# Altium integrated library Buttons.IntLib: 32 symbols
Pins are listed as number, name and electrical type; pins without a type are passive.

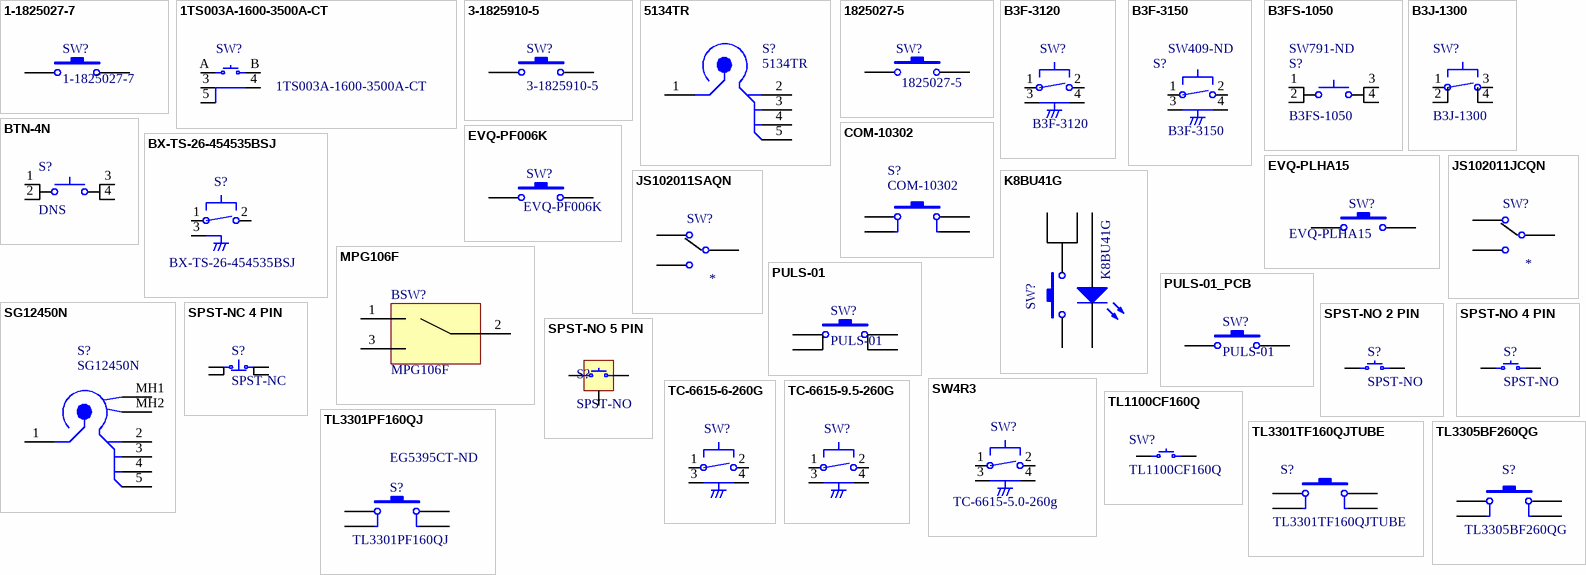
[diagram p0: symbols 1-1825027-7 to TL3305BF260QG]

## 1-1825027-7
designator SW?
SWITCH TACTILE SPST-NO 0.05A 24V; Manufacturer: TE Connectivity ALCOSWITCH Switches; Switch Function: Off-Mom; Contact Rating @ Voltage: 0.05A @ 24VDC; Actuator Type: Standard; Actuator Length, Right Angle: 6.85mm; Actuator Orientation: Side Actuated; Outline: 7.10mm x 7.00mm; Illumination: Non-Illuminated; Operating Force: 160gf; Actuator Material: Polyamide (PA), Nylon; Switch Travel: 0.25mm; Mechanical Life: 100,000 Cycles; Supplier 1: Digi-Key; Manufacturer Part Number: 1-1825027-7; RoHS: RoHS Compliant; Category: Switches; Stock 1: 14815; Pricing 1: 1=0.2, 10=0.194, 25=0.1876, 50=0.1808, 100=0.1708, 250=0.16072, 500=0.15402, 1000=0.11719, 5000=0.0971 (USD); Packaging: Bulk; Part Status: Active; Circuit: SPST-NO; Mounting Type: Through Hole, Right Angle; Actuator Height off PCB, Vertical: -; Termination Style: PC Pin; Illumination Type, Color: -; Illumination Voltage (Nominal): -; Ingress Protection: -; Features: -; Operating Temperature: -35°C ~ 85°C; ComponentLink1URL: http://www.te.com/commerce/DocumentDelivery/DDEController?Action=srchrtrv&DocNm=1825027&DocType=Customer+Drawing&DocLang=English; ComponentLink1Description: http://www.te.com/commerce/DocumentDelivery/DDEController?Action=srchrtrv&DocNm=1825027&DocType=Customer+Drawing&DocLang=English; Supplier Part Number 1: 450-1660-ND; Value: 1-1825027-7
footprint 1-1825027-7
pins: 1, 2

## 1TS003A-1600-3500A-CT
designator SW?
SPST-NO 50MA @ 12VDC SIDE ACTUATED RECTANGULAR BUTTON 2X4X3.5MM; Manufacturer: HYP (Hongyuan Precision); Switch Function: Off-Mom; Contact Rating @ Voltage: 0.05A @ 12VDC; Actuator Type: Plunger for Cap; Operating Force: 160gf; Switch Travel: 0.30mm; Mechanical Life: 100,000 Cycles; Manufacturer Part Number: 1TS003A-1600-3500A-CT; RoHS: RoHS Compliant; Category: Switches; Stock 1: 10088; Pricing 1: 1=0.45, 10=0.429, 25=0.4212, 50=0.4054, 100=0.3498, 250=0.318, 500=0.3021, 1000=0.2385, 5000=0.2226 (USD); Packaging: Bulk; Part Status: Active; Circuit: SPST-NO; Mounting Type: SMD; Actuator Height off PCB, Vertical: -; Actuator Orientation: Side Actuated; Termination Style: PC Pin; Outline: 2x4x3.5mm; Features: Tactile Feedback; Operating Temperature: -20°C ~ 70°C; ComponentLink1URL: http://spec_sheets.e-switch.com/specs/P001110.pdf; ComponentLink1Description: http://spec_sheets.e-switch.com/specs/P001110.pdf; Value: 1TS003A-1600-3500A-CT; Supplier Part Number 1: C255805
footprint 1TS003A-XXXX-3500A-CT
pins: 3, 4, 5, A, B

## 3-1825910-5
designator SW?
SWITCH TACTILE SPST-NO 0.05A 24V; Manufacturer: TE Connectivity ALCOSWITCH Switches; Switch Function: Off-Mom; Contact Rating @ Voltage: 0.05A @ 24VDC; Actuator Type: Standard; Actuator Height off PCB, Vertical: 8.50mm; Actuator Orientation: Top Actuated; Outline: 6.00mm x 6.00mm; Illumination: Non-Illuminated; Operating Force: 160gf; Actuator Material: Polyamide (PA66), Nylon 6/6; Switch Travel: 0.25mm; Mechanical Life: 100,000 Cycles; Supplier 1: Digi-Key; Manufacturer Part Number: 3-1825910-5; RoHS: RoHS Compliant; Category: Switches; Stock 1: 28985; Pricing 1: 1=0.11, 10=0.11, 25=0.1064, 50=0.1026, 100=0.0969, 250=0.09124, 500=0.08744, 1000=0.06653, 5000=0.05512 (USD); Packaging: Bulk; Part Status: Active; Circuit: SPST-NO; Mounting Type: Through Hole; Actuator Length, Right Angle: -; Termination Style: PC Pin; Illumination Type, Color: -; Illumination Voltage (Nominal): -; Ingress Protection: -; Features: -; Operating Temperature: -35°C ~ 85°C; ComponentLink1URL: http://www.te.com/commerce/DocumentDelivery/DDEController?Action=srchrtrv&DocNm=1825910&DocType=Customer+Drawing&DocLang=English; ComponentLink1Description: http://www.te.com/commerce/DocumentDelivery/DDEController?Action=srchrtrv&DocNm=1825910&DocType=Customer+Drawing&DocLang=English; Supplier Part Number 1: 450-1644-ND; Value: 3-1825910-5
footprint c-3-1825910-5-c-ONPCB
pins: 1, 2

## 5134TR
designator S?
Tactile Switches Mini Four Leg Keypad Dome Switch .020 H; Manufacturer: Keystone Electronics; Throw Configuration: SPST; Illumination Type: Non-Illuminated; Switch Function: Off-Mom; Operating Force: 280gf; Supplier: Digikey; Supplier Part Number: 36-5134CT-ND; Manufacturer Part Number: 5134TR; RoHS: Yes; Category: Tactile Switches; Stock: 107235; Pricing: 1=0,45, 25=0,4096, 100=0,321, 250=0,29596, 500=0,27916, 1000=0,243, 2500=0,2253 (USD); Mounting Technology: Surface Mount; Min Operating Temperature: -40°C; Max Operating Temperature: 105°C; Packaging: Cut Tape; Termination: SMD/SMT; Series: -; RoHS Compliant: Yes; ComponentLink1URL: http://www.keyelco.com/product-pdf.cfm?p=14314&src-supplier=Digikey; ComponentLink1Description: http://www.keyelco.com/product-pdf.cfm?p=14314&src-supplier=Digikey; ComponentLink2URL: https://datasheet.octopart.com/5134TR-Keystone-datasheet-100434997.pdf?src-supplier=Sager+Electronics; ComponentLink2Description: https://datasheet.octopart.com/5134TR-Keystone-datasheet-100434997.pdf?src-supplier=Sager+Electronics
footprint KEYSTONE_5134TR (SWITCH TACT SPST-NO 0.012A 24V, 7.00mm x 7.00mm)
pins: 1, 2, 3, 4, 5

## 1825027-5
designator SW?
Tactile Switch SPST-NO Side Actuated Through Hole, Right Angle; Switch Function: Off-Mom; Contact Rating @ Voltage: 0.05A @ 24VDC; Actuator Type: Standard; Actuator Height off PCB, from Pins: 3.86mm; Outline: 7.10mm x 7.00mm; Illumination: Non-Illuminated; Operating Force: 160gf; Actuator Material: Polybutylene Terephthalate (PBT); Switch Travel: 0.25mm; Mechanical Life: 100,000 Cycles; Packaging: Bulk; Circuit: SPST-NO; Mounting Type: Through Hole, Right Angle; Actuator Orientation: Side Actuated; Termination Style: PC Pin; Illumination Voltage (Nominal): -; Illumination Type, Color: -; Ingress Protection: -; Features: -; Operating Temperature: -35°C ~ 85°C; ComponentLink1URL: http://www.te.com/commerce/DocumentDelivery/DDEController?Action=srchrtrv&DocNm=1825027&DocType=Customer+Drawing&DocLang=English; ComponentLink1Description: http://www.te.com/commerce/DocumentDelivery/DDEController?Action=srchrtrv&DocNm=1825027&DocType=Customer+Drawing&DocLang=English; Supplier 1: Digi-Key; Supplier Part Number 1: 450-1662-ND; Value: 1825027-5
footprint 1825027-5
pins: 1, 2

## B3F-3120
designator SW?
Switch Tactile N.O. SPST Flat Round Button PC Pins 0.05A 24VDC 0.98N Thru-Hole Bag; Manufacturer: Omron; Actuator Length: 1.0922mm; Contact Current Rating: 50mA; Contact Resistance: 100mΩ; Electrical Life: 1Mcycles; Illumination Type: Illuminated, Non-Illuminated; Max Voltage Rating (DC): 24V; Number of Poles: 1; Operating Force: 1.27N; Switch Function: Off-Mom; Switch Travel: 250µm; Supplier: DigiKey; Supplier Part Number: SW407-ND; Manufacturer Part Number: B3F-3120; RoHS: Compliant; Category: Tactile Switches; Stock: 8706; Pricing: 1=0,34, 10=0,274, 25=0,2676, 100=0,2509, 250=0,24404, 500=0,2352, 1000=0,23128 (USD); Ambient Temperature Range High: 70°C; Color: Black; Contact Material: Gold, Silver; Contact Plating: Gold, Silver; Current Rating: 50mA; Depth: 7.15mm; Height: 7.4mm; Insulation Resistance: 100MΩ; Lead Free: Lead Free; Length: 7.3mm; Life (Cycles): 1Mcycles; Lifecycle Status: Production; Max Current Rating: 50mA; Max Operating Temperature: 70°C; Mechanical Life: 1Mcycles; Min Operating Temperature: -25°C; Mounting Technology: DIP, Through Hole; Number of Positions: 1; Orientation: Right Angle; Packaging: Bulk; Radiation Hardening: No; REACH SVHC: Yes; Termination: PC Pins; Throw Configuration: SPST; Voltage Rating (DC): 24V; Weight: 250mg; Width: 6mm; ComponentLink1URL: https://datasheet.octopart.com:443/B3F-3120-Omron-datasheet-10910152.pdf?src-supplier=Factory+Futures; ComponentLink1Description: https://datasheet.octopart.com:443/B3F-3120-Omron-datasheet-10910152.pdf?src-supplier=Factory+Futures; ComponentLink2URL: https://datasheet.octopart.com:443/B3F-3120-Omron-datasheet-179667965.pdf?src-supplier=Newark; ComponentLink2Description: https://datasheet.octopart.com:443/B3F-3120-Omron-datasheet-179667965.pdf?src-supplier=Newark; ComponentLink3URL: https://datasheet.octopart.com:443/B3F-3120-Omron-datasheet-8815213.pdf?src-supplier=Newark; ComponentLink3Description: https://datasheet.octopart.com:443/B3F-3120-Omron-datasheet-8815213.pdf?src-supplier=Newark; ComponentLink4URL: https://datasheet.octopart.com:443/B3F-3120-Omron-datasheet-62106907.pdf?src-supplier=element14+APAC; ComponentLink4Description: https://datasheet.octopart.com:443/B3F-3120-Omron-datasheet-62106907.pdf?src-supplier=element14+APAC; ComponentLink5URL: https://datasheet.octopart.com:443/B3F-3120-Omron-datasheet-14713915.pdf?src-supplier=element14+APAC; ComponentLink5Description: https://datasheet.octopart.com:443/B3F-3120-Omron-datasheet-14713915.pdf?src-supplier=element14+APAC; ComponentLink6URL: https://datasheet.octopart.com:443/B3F-3120-Omron-datasheet-5318198.pdf?src-supplier=Sager+Electronics; ComponentLink6Description: https://datasheet.octopart.com:443/B3F-3120-Omron-datasheet-5318198.pdf?src-supplier=Sager+Electronics; ComponentLink7URL: https://datasheet.octopart.com:443/B3F-3120-Omron-datasheet-11778577.pdf?src-supplier=Arrow+Electronics; ComponentLink7Description: https://datasheet.octopart.com:443/B3F-3120-Omron-datasheet-11778577.pdf?src-supplier=Arrow+Electronics; ComponentLink8URL: https://datasheet.octopart.com:443/B3F-3120-Omron-datasheet-134074.pdf?src-supplier=DigiKey; ComponentLink8Description: https://datasheet.octopart.com:443/B3F-3120-Omron-datasheet-134074.pdf?src-supplier=DigiKey; ComponentLink9URL: https://datasheet.octopart.com:443/B3F-3120-Omron-datasheet-41143.pdf?src-supplier=RS+(Formerly+Allied+Electronics); ComponentLink9Description: https://datasheet.octopart.com:443/B3F-3120-Omron-datasheet-41143.pdf?src-supplier=RS+(Formerly+Allied+Electronics); ComponentLink10URL: https://datasheet.octopart.com:443/B3F-3120-Omron-datasheet-9608067.pdf?src-supplier=RS+(Formerly+Allied+Electronics); ComponentLink10Description: https://datasheet.octopart.com:443/B3F-3120-Omron-datasheet-9608067.pdf?src-supplier=RS+(Formerly+Allied+Electronics)
footprint OMRON_B3F-3120 (SWITCH TACTILE SPST-NO 0.05A 24V)
pins: 1, 2, 3, 4

## B3F-3150
designator S?  Supplier Part Number 1: SW409-ND
Switch Tactile N.O. SPST Projected Plunger PC Pins 0.05A 24VDC 1000000Cycle 0.98N Thru-Hole R/A; Manufacturer: Omron; Mechanical Life: 1000000Cycles; Actuator Color: White; Voltage Rating (DC): 24V; Current Rating: 50mA; Contact Resistance: 100mR; Illumination Type: Non-Illuminated,Illuminated; Number of Poles: 1; Switch Travel: 0.25mm; Switch Function: Off-Mom; Supplier 1: Digi-Key; Manufacturer Part Number: B3F-3150; RoHS: Yes; Category: Tactile Switches; Stock 1: 32236; Pricing 1: 1=0,52000, 10=0,49700, 25=0,47880, 100=0,41420, 250=0,37740, 500=0,34980, 1000=0,32218 (USD); Mount: Through Hole; Number of Pins: 4; Contact Material: Gold,Silver; Contact Plating: Gold; Weight: 0.25g; Min Operating Temperature: -25°C; Max Operating Temperature: 70°C; Package Quantity: 1000; Packaging: Bulk; Operating Force: 0.98N; Contact Current Rating: 50mA; Throw Configuration: SPST; Max Current Rating: 50mA; Max Voltage Rating (DC): 24V; Termination: PC Pins; Electrical Life: 1000000Cycles; Orientation: Right Angle; Insulation Resistance: 100MR; Series: B3F; Actuator Type: PLUNGER; Length: 7.3mm; Depth: 7.15mm; Radiation Hardening: No; Reach SVHC Compliant: Unknown; Lead Free: Lead Free; RoHS Compliant: Yes; ComponentLink1URL: https://datasheet.ciiva.com/27056/2086709-27056649.pdf?src-supplier=Jameco; ComponentLink1Description: https://datasheet.ciiva.com/27056/2086709-27056649.pdf?src-supplier=Jameco; ComponentLink2URL: https://datasheet.ciiva.com/2900/b3f-0811-2900014.pdf?src-supplier=Digi-Key; ComponentLink2Description: https://datasheet.ciiva.com/2900/b3f-0811-2900014.pdf?src-supplier=Digi-Key; ComponentLink3URL: https://datasheet.ciiva.com/30264/en-b3f-30264153.pdf?src-supplier=Onlinecomponents.com; ComponentLink3Description: https://datasheet.ciiva.com/30264/en-b3f-30264153.pdf?src-supplier=Onlinecomponents.com; ComponentLink4URL: https://datasheet.ciiva.com/1532/1686088-1532556.pdf?src-supplier=Element14; ComponentLink4Description: https://datasheet.ciiva.com/1532/1686088-1532556.pdf?src-supplier=Element14; ComponentLink5URL: https://datasheet.ciiva.com/1532/1686088-1532557.pdf?src-supplier=Element14; ComponentLink5Description: https://datasheet.ciiva.com/1532/1686088-1532557.pdf?src-supplier=Element14; ComponentLink6URL: https://datasheet.ciiva.com/14142/b3f-eng-datasheet-14142461.pdf?src-supplier=Distrelec; ComponentLink6Description: https://datasheet.ciiva.com/14142/b3f-eng-datasheet-14142461.pdf?src-supplier=Distrelec
footprint OMRON_B3F-3150 (SWITCH TACTILE SPST-NO 0.05A 24V)
pins: 1, 2, 3, 4

## B3FS-1050
designator S?  Supplier Part Number 1: SW791-ND
Switch Tactile N.O. SPST Projected Plunger Gull Wing 0.05A 24VDC 0.98N SMD Bag; Manufacturer: Omron; Mechanical Life: 1000000Cycles; Actuator Color: Black; Illumination Type: Non-Illuminated,Illuminated; Max Voltage Rating (DC): 24V; Contact Current Rating: 50mA; Contact Resistance: 100mR; Number of Poles: 1; Switch Travel: 0.25mm; Switch Function: Off-Mom; Actuator Length: 4.7mm; Supplier 1: Digi-Key; Manufacturer Part Number: B3FS-1050; RoHS: Yes; Category: Tactile Switches; Stock 1: 3; Pricing 1: 1=2,70000, 10=2,54400, 25=2,31240, 100=2,00400, 300=1,92693 (USD); Mount: Surface Mount; Case/Package: SMD/SMT; Contact Plating: Silver; Contact Material: Silver,ABS; Weight: 0.2g; Min Operating Temperature: -20°C; Max Operating Temperature: 70°C; Package Quantity: 100; Series: B3FS; Packaging: Bag; Operating Force: 0.98N; Throw Configuration: SPST; Termination: Gull Wing; Voltage Rating (DC): 24V; Current Rating: 50mA; Max Current Rating: 50mA; Electrical Life: 1000000Cycles; Orientation: Straight; Actuator Type: PLUNGER; Length: 6.3mm; Width: 6.3mm; Height: 9.5mm; Depth: 8mm; RoHS Compliant: Yes; Reach SVHC Compliant: No SVHC; Lead Free: Lead Free; ComponentLink1URL: https://datasheet.ciiva.com/23617/24021-23617430.pdf?src-supplier=Newark; ComponentLink1Description: https://datasheet.ciiva.com/23617/24021-23617430.pdf?src-supplier=Newark; ComponentLink2URL: https://datasheet.ciiva.com/22649/1518732-22649287.pdf?src-supplier=Farnell; ComponentLink2Description: https://datasheet.ciiva.com/22649/1518732-22649287.pdf?src-supplier=Farnell; ComponentLink3URL: https://datasheet.ciiva.com/16154/en-b3fs-16154965.pdf?src-supplier=Onlinecomponents.com; ComponentLink3Description: https://datasheet.ciiva.com/16154/en-b3fs-16154965.pdf?src-supplier=Onlinecomponents.com; ComponentLink4URL: https://datasheet.ciiva.com/2900/en-b3fs-2900122.pdf?src-supplier=Digi-Key; ComponentLink4Description: https://datasheet.ciiva.com/2900/en-b3fs-2900122.pdf?src-supplier=Digi-Key
footprint OMRON_B3FS-1050 (SWITCH TACTILE SPST-NO 0.05A 24V)
pins: 1, 2, 3, 4

## B3J-1300
designator SW?
Switch Tactile N.O. SPST Hinge Button PC Pins 0.05A 24VDC 1.27N Thru-Hole; Manufacturer: Omron; Mechanical Life: 3000000Cycles; Actuator Color: Yellow; Contact Current Rating: 50mA; Voltage Rating (DC): 24V; Contact Resistance: 100mR; Illumination Type: Illuminated; Switch Function: Off-Mom; Actuator Type: Square, Button; Actuator Length: 6.8mm; Supplier: Digi-Key; Supplier Part Number: SW2315-ND; Manufacturer Part Number: B3J-1300; RoHS: Yes; Category: Pushbutton Switches; Stock: 209; Pricing: 1=2,43, 10=2,179, 25=2,0592, 50=1,9698, 100=1,8703, 250=1,79072, 500=1,6614, 1000=1,58181 (USD); Mounting Technology: Through Hole; Weight: 1.7g; Contact Plating: Silver; Min Operating Temperature: -25°C; Max Operating Temperature: 70°C; Packaging: Bulk; Operating Force: 1.27N; Throw Configuration: SPST; Max Voltage Rating (DC): 24V; Current Rating: 50mA; Package Quantity: 300; Termination: PC Pin; Electrical Life: 3000000Cycles; Orientation: Straight; Series: B3J; Lead Free: Lead Free; RoHS Compliant: Yes; Reach SVHC Compliant: Unknown; ComponentLink1URL: https://datasheet.ciiva.com/30089/en-b3j-30089948.pdf?src-supplier=Onlinecomponents.com; ComponentLink1Description: https://datasheet.ciiva.com/30089/en-b3j-30089948.pdf?src-supplier=Onlinecomponents.com; ComponentLink2URL: https://datasheet.ciiva.com/16154/en-b3j-16154953.pdf?src-supplier=Onlinecomponents.com; ComponentLink2Description: https://datasheet.ciiva.com/16154/en-b3j-16154953.pdf?src-supplier=Onlinecomponents.com; ComponentLink3URL: https://datasheet.ciiva.com/2871/b3j-1110-2871233.pdf?src-supplier=Digi-Key; ComponentLink3Description: https://datasheet.ciiva.com/2871/b3j-1110-2871233.pdf?src-supplier=Digi-Key
footprint OMRON_B3J-1300
pins: 1, 2, 3, 4

## BTN-4N
designator S?, comment BOMOPTION: DNS  (hidden comment: Push Button)
SPST- NO Momentary Button, 160g Force; Part Number: BTN00002; Manufacturer: Panasonic; Manufacturer Part Number: EVQ-P2202M; Value: EVQ-P2202M; Supplier 1: Digi-Key; Supplier Part Number 1: P12298SCT-ND; Supplier Price 1: 0.45619; ComponentLink1URL: http://industrial.panasonic.com/www-data/pdf/ATK0000/ATK0000CE6.pdf
footprint EVQP0
footprint EVQ-PLDA15
footprint BTN470X350X210-4N
pins: 1, 2, 3, 4

## BX-TS-26-454535BSJ
designator S?
SWITCH TACTILE SPST 260gf TH R/A; Manufacturer: Bossie; Mechanical Life: 1000000Cycles; Actuator Color: White; Voltage Rating (DC): 24V; Current Rating: 50mA; Operating Force: 0.98N; Contact Resistance: 100mR; Illumination Type: Non-Illuminated,Illuminated; Number of Poles: 1; Switch Travel: 0.25mm; Switch Function: Off-Mom; Actuator Type: PLUNGER; Supplier 1: LCSC; Manufacturer Part Number: BX-TS-26-454535BSJ; Category: Tactile Switches; Stock 1: 32236; Pricing 1: 1=0,52000, 10=0,49700, 25=0,47880, 100=0,41420, 250=0,37740, 500=0,34980, 1000=0,32218 (USD); Mount: Through Hole; Number of Pins: 4; Contact Material: Gold,Silver; Contact Plating: Gold; Weight: 0.25g; Min Operating Temperature: -25°C; Max Operating Temperature: 70°C; Package Quantity: 1000; Packaging: Bulk; Contact Current Rating: 50mA; Throw Configuration: SPST; Max Current Rating: 50mA; Max Voltage Rating (DC): 24V; Termination: PC Pins; Electrical Life: 1000000Cycles; Orientation: Right Angle; Insulation Resistance: 100MR; Series: B3F; Length: 7.3mm; Depth: 7.15mm; Radiation Hardening: No; Reach SVHC Compliant: Unknown; Lead Free: Lead Free; RoHS Compliant: Yes; ComponentLink5URL: https://www.lcsc.com/product-detail/C18078074.html?s_z=n_q_t_tactile%2520switch&spm=wm.fly.bg.2.xh___wm.ssy.tc.0.tz&lcsc_vid=QlFaVgJWTlFbVFcHQFkNVFxfFVZXUFEDEQANXwBQQQQxVlNeRllWX1ZWQ1FYVzsOAxUeFF5JWBYZEEoKFBINSQcJGk4%3D; ComponentLink5Description: datasheet; Supplier Part Number 1: C18078074
footprint TS-1091B-A2B3-D2
pins: 1, 2, 3

## COM-10302
designator S?
Tactile Button Assortment; Manufacturer: SparkFun; Throw Configuration: SPST; Supplier: Digikey; Supplier Part Number: 1568-1332-ND; Manufacturer Part Number: COM-10302; RoHS: No; Stock: 125; Pricing: 1=6,5 (USD); Mounting Technology: Through Hole; Termination: PC Pin; Series: -; ComponentLink1URL: https://www.sparkfun.com/datasheets/Components/Buttons/TSA12110%20TACT%20SWITCH.jpg?src-supplier=Digikey; ComponentLink1Description: https://www.sparkfun.com/datasheets/Components/Buttons/TSA12110%20TACT%20SWITCH.jpg?src-supplier=Digikey
footprint SPARKFUN_SC203
pins: 1, 2, 3, 4

## EVQ-PF006K
designator SW?
SWITCH TACTILE SPST-NO 0.02A 15V; Manufacturer: Panasonic Electronic Components; Switch Function: Off-Mom; Contact Rating @ Voltage: 0.02A @ 15VDC; Actuator Type: Standard; Actuator Length, Right Angle: 5.85mm; Actuator Orientation: Side Actuated; Outline: 7.50mm x 7.10mm; Illumination: Non-Illuminated; Operating Force: 100gf; Switch Travel: 0.25mm; Mechanical Life: 100,000 Cycles; Supplier 1: Digi-Key; Manufacturer Part Number: EVQ-PF006K; RoHS: RoHS Compliant; Category: Switches; Stock 1: 16336; Pricing 1: 1=0.22, 10=0.212, 25=0.2044, 50=0.1972, 100=0.1862, 250=0.1752, 500=0.1679, 1000=0.12775, 5000=0.10585 (USD); Packaging: Bulk; Part Status: Active; Circuit: SPST-NO; Mounting Type: Through Hole, Right Angle; Actuator Height off PCB, Vertical: -; Termination Style: PC Pin; Illumination Type, Color: -; Illumination Voltage (Nominal): -; Ingress Protection: -; Features: -; Actuator Material: -; Operating Temperature: -20°C ~ 70°C; ComponentLink1URL: http://industrial.panasonic.com/www-data/pdf/ATK0000/ATK0000CE32.pdf; ComponentLink1Description: http://industrial.panasonic.com/www-data/pdf/ATK0000/ATK0000CE32.pdf; Supplier Part Number 1: P10879S-ND; Value: EVQ-PF006K
footprint EVQ-PF006K
pins: 1, 2

## EVQ-PLHA15
designator SW?
SWITCH TACTILE SPST-NO 0.02A 15V; Manufacturer: Panasonic Electronic Components; Switch Function: Off-Mom; Contact Rating @ Voltage: 0.02A @ 15VDC; Actuator Type: Standard; Actuator Height off PCB, Vertical: 1.50mm; Actuator Orientation: Top Actuated; Outline: 4.90mm x 4.90mm; Illumination: Non-Illuminated; Operating Force: 160gf; Switch Travel: 0.25mm; Mechanical Life: 500,000 Cycles; Supplier 1: Digi-Key; Manufacturer Part Number: EVQ-PLHA15; RoHS: RoHS Compliant; Category: Switches; Stock 1: 56384; Pricing 1: 1=0.52, 10=0.505, 25=0.4956, 50=0.4768, 100=0.4114, 250=0.374, 500=0.3553, 1000=0.2805 (USD); Packaging: Cut Tape (CT); Part Status: Active; Circuit: SPST-NO; Mounting Type: Surface Mount; Actuator Length, Right Angle: -; Termination Style: J Lead; Illumination Type, Color: -; Illumination Voltage (Nominal): -; Ingress Protection: -; Features: Push Plate; Actuator Material: -; Operating Temperature: -20°C ~ 70°C; ComponentLink1URL: http://industrial.panasonic.com/cdbs/www-data/pdf/ATK0000/ATK0000CE3.pdf; ComponentLink1Description: http://industrial.panasonic.com/cdbs/www-data/pdf/ATK0000/ATK0000CE3.pdf; Supplier Part Number 1: P8046SCT-ND
footprint EVQ-PLHA15
pins: 1, 2

## JS102011JCQN
designator SW?
footprint JS102011JCQN
pins: 1, 2 1, 3

## JS102011SAQN
designator SW?
SWITCH SLIDE SPDT 300MA 6V
footprint JS102011SAQN
pins: 1, 2 1, 3

## K8BU41G
designator K8BU41G, comment SW?
Illuminated Tactile Switches Lighted SMT Tact Blue, 4N, Gold; Manufacturer: ITT C&K; Manufacturer Part Number: K8BU41G; Mechanical Life: 300000Cycles; Operating Force: 400gf; Current Rating: 50mA; Voltage Rating (DC): 32V; Illumination Type: LED,Illuminated; Throw Configuration: SPST; Switch Travel: 0.45mm; Switch Function: Off-Mom; IP Rating: IP40; Supplier 1: Digi-Key; Supplier Part Number 1: CKN10529DKR-ND; Stock 1: 3967; Pricing 1: 1=4.37, 10=4.205, 25=3.8684, 50=3.3638, 100=3.1957, 250=3.1116 (USD); Mount: Surface Mount; Case/Package: SMD/SMT; Colour: Black; Contact Plating: Silver; Min Operating Temperature: -40°C; Max Operating Temperature: 85°C; Illumination Colour: Blue; Packaging: Tape and Reel; Package Quantity: 900; Termination: Gull Wing; ComponentLink1URL: https://datasheet.ciiva.com/18514/k8-18514118.pdf; ComponentLink1Description: https://datasheet.ciiva.com/18514/k8-18514118.pdf; ComponentLink2URL: https://datasheet.ciiva.com/18514/k8-18514119.pdf; ComponentLink2Description: https://datasheet.ciiva.com/18514/k8-18514119.pdf; ComponentLink3URL: https://datasheet.ciiva.com/18514/k8-18514120.pdf; ComponentLink3Description: https://datasheet.ciiva.com/18514/k8-18514120.pdf
footprint K8BU41G (SWITCH TACTILE SPST-NO 0.05A 32V)
footprint K8BU41G - BOTTOM SOLDER
pins: 1, 2, 3, 4, 5

## MPG106F
designator BSW?
SWITCH PUSHBUTTON SPDT 6A 125V; Manufacturer 1: TE Connectivity; Actuator Material: Resin; Illumination Type: Illuminated; Max Voltage Rating (AC): 250V; Contact Resistance: 10mR; Number of Poles: 1; Electrical Life: 50000Cycles; Number of Positions: 2; Switch Function: On-Mom; Insulation Resistance: 1GR; Actuator Type: Round, Button; Voltage Rating (DC): 28V; Actuator Length: 0.315inch; Approvals: UL,CSA; Supplier 1: Digi-Key; Manufacturer Part Number 1: MPG106F; RoHS: Yes; Category: Pushbutton Switches; Stock 1: 471; Pricing 1: 1=14,53000, 10=13,76700, 25=13,57600, 50=12,62020, 100=12,42890, 250=11,09040, 500=10,70798 (USD); Mount: Panel; Contact Material: Copper,Silver; Contact Plating: Gold,Silver; Housing Material: Thermoset; Min Operating Temperature: -20°C; Max Operating Temperature: 80°C; Packaging: Bulk; Package Quantity: 25; Current Rating: 6A; Throw Configuration: SPDT; Contact Current Rating: 6A; Termination: Lug; Orientation: Straight; Type: Switch; Voltage Rating (AC): 250V; Lead Free: Lead Free; ELV: Compliant; REACH SVHC: Unknown; ComponentLink1URL: https://datasheet.ciiva.com/30466/0900766b812265d1-30466982.pdf?src-supplier=RSComponents; ComponentLink1Description: https://datasheet.ciiva.com/30466/0900766b812265d1-30466982.pdf?src-supplier=RSComponents; ComponentLink2URL: https://datasheet.ciiva.com/2869/eng-cd-4-1437567-9-c3-4-1437567-9-3-c-dwg-2869509.pdf?src-supplier=Digi-Key; ComponentLink2Description: https://datasheet.ciiva.com/2869/eng-cd-4-1437567-9-c3-4-1437567-9-3-c-dwg-2869509.pdf?src-supplier=Digi-Key; ComponentLink3URL: https://datasheet.ciiva.com/24447/1308390-sec-d1-pushbutton-switches-24447973.pdf?src-supplier=Onlinecomponents.com; ComponentLink3Description: https://datasheet.ciiva.com/24447/1308390-sec-d1-pushbutton-switches-24447973.pdf?src-supplier=Onlinecomponents.com; ComponentLink4URL: https://datasheet.ciiva.com/30062/1308390-sec-d1-pushbutton-switches-30062814.pdf?src-supplier=Onlinecomponents.com; ComponentLink4Description: https://datasheet.ciiva.com/30062/1308390-sec-d1-pushbutton-switches-30062814.pdf?src-supplier=Onlinecomponents.com; ComponentLink5URL: https://datasheet.ciiva.com/7633/1650977-7633295.pdf?src-supplier=Element14; ComponentLink5Description: https://datasheet.ciiva.com/7633/1650977-7633295.pdf?src-supplier=Element14; Value: MPG106F; Supplier Part Number 1: 450-1086-ND
footprint MPG106F
pins: 1, 2, 3

## PULS-01
designator SW?
SWITCH TACTILE SPST-NO 0.05A 24V; Manufacturer: Didacticas I+D; Switch Function: Off-Mom; Actuator Type: Standard; Actuator Length, Right Angle: 6.85mm; Actuator Orientation: Side Actuated; Outline: 12x12mm; Illumination: Non-Illuminated; Operating Force: 160gf; Actuator Material: Polyamide (PA), Nylon; Switch Travel: 0.25mm; Mechanical Life: 100,000 Cycles; Manufacturer Part Number: PULS-01; RoHS: RoHS Compliant; Category: Switches; Packaging: Bulk; Part Status: Active; Circuit: SPST-NO; Mounting Type: Through Hole; Actuator Height off PCB, Vertical: -; Termination Style: PC Pin; Illumination Type, Color: -; Illumination Voltage (Nominal): -; Ingress Protection: -; Features: -; Operating Temperature: -35°C ~ 85°C; Value: PULS-01; Supplier 1: Didacticas I+D; Supplier Part Number 1: PULS-01
footprint PULS-01
pins: 1, 2, 3, 4

## PULS-01_PCB
designator SW?, comment PULS-01
SWITCH TACTILE SPST-NO 0.05A 24V; Manufacturer: Didacticas I+D; Switch Function: Off-Mom; Actuator Type: Standard; Actuator Length, Right Angle: 6.85mm; Actuator Orientation: Side Actuated; Outline: 12x12mm; Illumination: Non-Illuminated; Operating Force: 160gf; Actuator Material: Polyamide (PA), Nylon; Switch Travel: 0.25mm; Mechanical Life: 100,000 Cycles; Manufacturer Part Number: PULS-01; RoHS: RoHS Compliant; Category: Switches; Packaging: Bulk; Part Status: Active; Circuit: SPST-NO; Mounting Type: Through Hole; Actuator Height off PCB, Vertical: -; Termination Style: PC Pin; Illumination Type, Color: -; Illumination Voltage (Nominal): -; Ingress Protection: -; Features: -; Operating Temperature: -35°C ~ 85°C; Value: PULS-01; Supplier 1: Didacticas I+D; Supplier Part Number 1: PULS-01
footprint PULS-01-PCB
pins: SW1 1, SW2 2

## SG12450N
designator S?
SNAPTRON , 12mm , 450g force
footprint SNAPTRON-SG12450N
pins: 1, 2, 3, 4, 5, MH1, MH2

## SPST-NC 4 PIN
designator S?, comment SPST-NC
Populated: Yes; Value: *; ClassName: *; ROHS: Yes; Manuf1: *; Manuf1Partnumber: *; HelpURL: *; PackageReference: *; LifeCycle: Checked; Code_JEDEC: *
footprint TE FSM6JSMA
pins: 1, 2, 3, 4

## SPST-NO 2 PIN
designator S?, comment SPST-NO
Populated: Yes; LifeCycle: Checked; ROHS: Yes
footprint TE FSMSMTR
pins: 1, 2

## SPST-NO 4 PIN
designator S?, comment SPST-NO
Populated: Yes; LifeCycle: Checked; ROHS: Yes
footprint TE FSM4JSMA
footprint SW4SMD_63X161LS
footprint B3F-XX
pins: 1, 2, 3, 4

## SPST-NO 5 PIN
designator S?, comment SPST-NO
Populated: Yes; LifeCycle: Checked; ROHS: Yes
footprint TE FSM1LPATR
pins: 1, 2, 3,4, 5 GND

## SW4R3
designator SW?, comment TC-6615-5.0-260g
SWITCH TACTILE SPST 2.6N TH R/A; Manufacturer: HCTL; Supplier: LCSC; Supplier Part Number: C7542830; Manufacturer Part Number: TC-6615-5.0-260g; ComponentLink1Description: LCSC; ComponentLink1URL: https://www.lcsc.com/product-detail/C2845276.html?s_z=n_q_TC-6615-7.5-260G&spm=wm.fly.bg.0.xh&lcsc_vid=RABaBgEAQFJbU1QAFAVcVQJeFgNeU1QCTlBaXgJTE1QxVlNeQ1FYU1NRRFZbVzsOAxUeFF5JWBYZEEoKFBINSQcJGk4dAgUUFAk%3D; ComponentLink2Description: Datasheet; ComponentLink2URL: https://www.lcsc.com/datasheet/C7542830.pdf?spm=wm.sxq.inf.ggs___wm.fly.bg.0.xh&lcsc_vid=RgVfV1NeEQBdVFZfE1ANXwcAT1IPVFJTE1RdBlwDTgAxVlNeQlNbUlJQQFhaUTsOAxUeFF5JWBYZEEoKFBINSQcJGk4dAgUUFAk%3D
footprint TC-6615-5.0-260G (SWITCH TACTILE SPST-NO 0.05A 24V)
pins: 1, 2, 3, 4

## TC-6615-6-260G
designator SW?  (value not drawn)
SWITCH TACTILE SPST 260gf TH R/A; Manufacturer: HCTL; Supplier 1: LCSC; Supplier 1 Part Number: C2845272; Manufacturer Part Number: TC-6615-6-260G; ComponentLink1URL: https://www.lcsc.com/product-detail/C2845272.html?s_z=n_q_TC-6615-6-260G&spm=wm.fly.bg.0.xh&lcsc_vid=QwQPVlRfTlAMVlYEElEIBFZQRAdYBlYARVlXXlZQEVkxVlNeT1RcXlRWRVFfVTsOAxUeFF5JWBYZEEoKFBINSQcJGk4NBhADEA4cHktQQlBADxALGw%3D%3D; ComponentLink1Description: LCSC; ComponentLink2URL: https://www.lcsc.com/datasheet/C2845278.pdf?spm=wm.sxq.inf.ggs___wm.fly.bg.0.stp&lcsc_vid=EVRWVVBURVgMUVdfEVEIBl1XQFJcAlIHEQJYBgZQRAIxVlNeQFFZVlxRQlJeUzsOAxUeFF5JWBYZEEoKFBINSQcJGk4NBhADEA4cHktQQlBADxALGw%3D%3D; ComponentLink2Description: Datasheet
footprint TC-6615-6-260G (SWITCH TACTILE SPST 260gf TH R/A 6MM ACTUATOR)
pins: 1, 2, 3, 4

## TC-6615-9.5-260G
designator SW?  (value not drawn)
SWITCH TACTILE SPST 260gf TH R/A; Manufacturer: HCTL; Supplier 1: LCSC; Supplier 1 Part Number: C2845278; Manufacturer Part Number: TC-6615-9.5-260G; ComponentLink1URL: https://www.lcsc.com/product-detail/C2845278.html?s_z=n_q_TC-6615-9.5-260G&spm=wm.fly.bg.0.stp&lcsc_vid=EVRWVVBURVgMUVdfEVEIBl1XQFJcAlIHEQJYBgZQRAIxVlNeQFFZVlxRQlJeUzsOAxUeFF5JWBYZEEoKFBINSQcJGk4NBhADEA4cHktQQlBADxALGw%3D%3D; ComponentLink1Description: LCSC; ComponentLink2URL: https://www.lcsc.com/datasheet/C2845278.pdf?spm=wm.sxq.inf.ggs___wm.fly.bg.0.stp&lcsc_vid=EVRWVVBURVgMUVdfEVEIBl1XQFJcAlIHEQJYBgZQRAIxVlNeQFFZVlxRQlJeUzsOAxUeFF5JWBYZEEoKFBINSQcJGk4NBhADEA4cHktQQlBADxALGw%3D%3D; ComponentLink2Description: Datasheet
footprint TC-6615-9.5-260G (SWITCH TACTILE SPST 260gf TH R/A)
pins: 1, 2, 3, 4

## TL1100CF160Q
designator SW?
SWITCH TACTILE SPST-NO 0.05A 12V; Manufacturer: E-Switch; Switch Function: Off-Mom; Contact Rating @ Voltage: 0.05A @ 12VDC; Actuator Type: Plunger for Cap; Actuator Length, Right Angle: 6.45mm; Actuator Orientation: Side Actuated; Outline: 12.00mm x 12.00mm; Illumination: Non-Illuminated; Operating Force: 160gf; Actuator Material: Polyester; Switch Travel: 0.30mm; Mechanical Life: 100,000 Cycles; Supplier 1: Digi-Key; Manufacturer Part Number: TL1100CF160Q; RoHS: RoHS Compliant; Category: Switches; Stock 1: 10088; Pricing 1: 1=0.45, 10=0.429, 25=0.4212, 50=0.4054, 100=0.3498, 250=0.318, 500=0.3021, 1000=0.2385, 5000=0.2226 (USD); Packaging: Bulk; Part Status: Active; Circuit: SPST-NO; Mounting Type: Through Hole, Right Angle; Actuator Height off PCB, Vertical: -; Termination Style: PC Pin; Illumination Type, Color: -; Illumination Voltage (Nominal): -; Ingress Protection: -; Features: Tactile Feedback; Operating Temperature: -20°C ~ 70°C; ComponentLink1URL: http://spec_sheets.e-switch.com/specs/P001110.pdf; ComponentLink1Description: http://spec_sheets.e-switch.com/specs/P001110.pdf; Value: TL1100CF160Q; Supplier Part Number 1: EG1822-ND
footprint TL1100CF160Q
pins: 1, 2

## TL3301PF160QJ
designator S?  Supplier Part Number 1: EG5395CT-ND
TL3301 Series Tactile Switch SMT Tact Switch SPST-NO 0.05A 12V; Manufacturer: E-Switch; Mechanical Life: 100000Cycles; Actuator Material: Nylon,Polyamide; Operating Force: 160gf; Current Rating: 50mA; Throw Configuration: SPST; Illumination Type: Non-Illuminated; Switch Travel: 0.25mm; Switch Function: Off-Mom; Actuator Type: Standard; Supplier 1: Digi-Key; Manufacturer Part Number: TL3301PF160QJ; RoHS: Yes; Category: Tactile Switches; Stock 1: 3100; Pricing 1: 1=0,46000, 10=0,44700, 25=0,43080, 100=0,37270, 250=0,33956 (USD); Mount: Surface Mount; Case/Package: SMD/SMT; Contact Plating: Silver; Min Operating Temperature: -20°C; Max Operating Temperature: 70°C; Package Quantity: 650; Packaging: Tape and Reel; Voltage Rating (DC): 12V; Series: TL3301; Lead Free: Lead Free; RoHS Compliant: Yes; ComponentLink1URL: https://datasheet.ciiva.com/16514/p010655-16514369.pdf?src-supplier=Future+Electronics; ComponentLink1Description: https://datasheet.ciiva.com/16514/p010655-16514369.pdf?src-supplier=Future+Electronics; ComponentLink2URL: https://datasheet.ciiva.com/14920/tl3301-14920475.pdf?src-supplier=Digi-Key; ComponentLink2Description: https://datasheet.ciiva.com/14920/tl3301-14920475.pdf?src-supplier=Digi-Key
footprint E-SWITCH_TL3301PF160QJ
pins: 1, 2, 3, 4

## TL3301TF160QJTUBE
designator S?
Eswch TL3301TF160QJTUBE; Manufacturer: E-Switch; Supplier 1: Digi-Key; Manufacturer Part Number: TL3301TF160QJTUBE; RoHS: No; Category: Tactile Switches; Stock 1: 14450; Pricing 1: 1=0,48000, 10=0,46600, 25=0,43840, 90=0,38056, 270=0,34526, 450=0,32118, 990=0,28906, 4950=0,25213 (USD); Supplier Part Number 1: 141-TL3301TF160QJTUBE-ND
footprint E-SWITCH_TL3301TF160QJTUBE (SWITCH TACTILE SPST-NO 0.05A 12V-PLUNGER CAP-2.4mm)
pins: 1, 2, 3, 4

## TL3305BF260QG
designator S?
Switch Tactile N.O. SPST Round Button Gull Wing 0.05A 12VDC 2.55N SMD T/R; Manufacturer: E-Switch; Mechanical Life: 200000Cycles; Illumination Type: Non-Illuminated; Operating Force: 260gf; Switch Travel: 0.2mm; Switch Function: Off-Mom; Actuator Type: Standard; Supplier: Digikey; Supplier Part Number: EG5354CT-ND; Manufacturer Part Number: TL3305BF260QG; RoHS: Yes; Category: Tactile Switches; Stock: 306562; Pricing: 1=0,22, 10=0,214, 25=0,2028, 100=0,1836, 250=0,16736, 500=0,15558 (USD); Mounting Technology: Surface Mount; Min Operating Temperature: -20°C; Max Operating Temperature: 70°C; Packaging: Cut Tape; Termination: Gull Wing; Throw Configuration: SPST; Series: TL3305; Lead Free: Lead Free; RoHS Compliant: Yes; ComponentLink1URL: http://www.farnell.com/datasheets/2554191.pdf?src-supplier=Farnell; ComponentLink1Description: http://www.farnell.com/datasheets/2554191.pdf?src-supplier=Farnell; ComponentLink2URL: https://datasheet.octopart.com/TL3305BF260QG-E-Switch-datasheet-62330036.pdf?src-supplier=Future+Electronics; ComponentLink2Description: https://datasheet.octopart.com/TL3305BF260QG-E-Switch-datasheet-62330036.pdf?src-supplier=Future+Electronics; ComponentLink3URL: http://www.farnell.com/datasheets/2554191.pdf?src-supplier=Newark; ComponentLink3Description: http://www.farnell.com/datasheets/2554191.pdf?src-supplier=Newark; ComponentLink4URL: https://sten-eswitch-13110800-production.s3.amazonaws.com/system/asset/product_line/data_sheet/213/TL3305.pdf?src-supplier=Digikey; ComponentLink4Description: https://sten-eswitch-13110800-production.s3.amazonaws.com/system/asset/product_line/data_sheet/213/TL3305.pdf?src-supplier=Digikey; ComponentLink5URL: http://spec_sheets.e-switch.com/specs/P010472.pdf?src-supplier=Digikey; ComponentLink5Description: http://spec_sheets.e-switch.com/specs/P010472.pdf?src-supplier=Digikey; ComponentLink6URL: https://datasheet.octopart.com/TL3305BF260QG-E-Switch-datasheet-100437264.pdf?src-supplier=Element14; ComponentLink6Description: https://datasheet.octopart.com/TL3305BF260QG-E-Switch-datasheet-100437264.pdf?src-supplier=Element14
footprint E-SWITCH_TL3305BF260QG (SWITCH TACTILE SPST-NO 0.05A 12V)
pins: 1, 2, 3, 4